# EAGLE library part SAT434A (library RobotElementy)
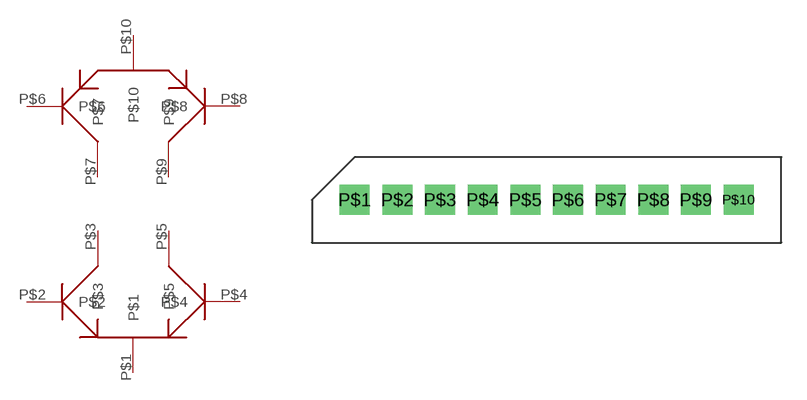
[diagram p1: symbol with the pads of 10; footprint 10]

Designator prefix -

## SAT434A  [10]
P$1  P$1
P$2  P$2
P$3  P$3
P$4  P$4
P$5  P$5
P$6  P$6
P$7  P$7
P$8  P$8
P$9  P$9
P$10  P$10

## Footprint 10 (pad centres in mm)
drill 0.8 pad 1.778 square: P$1 -11.43,0; P$2 -8.89,0; P$3 -6.35,0; P$4 -3.81,0; P$5 -1.27,0; P$6 1.27,0; P$7 3.81,0; P$8 6.35,0; P$9 8.89,0; P$10 11.43,0